# Altium footprint library libreriaPcb.PcbLib: 683 footprints (part 31 of 44)
Each footprint in its own frame and in the unit in brackets; x right, y up, seen from the top. Pads: shape width x height; smd on the part's side, far side on the other; paste and mask are expansions set on the pad; w line width, h text height; cw(c..) or ccw(c..) is an arc to the next point about the centre after c.
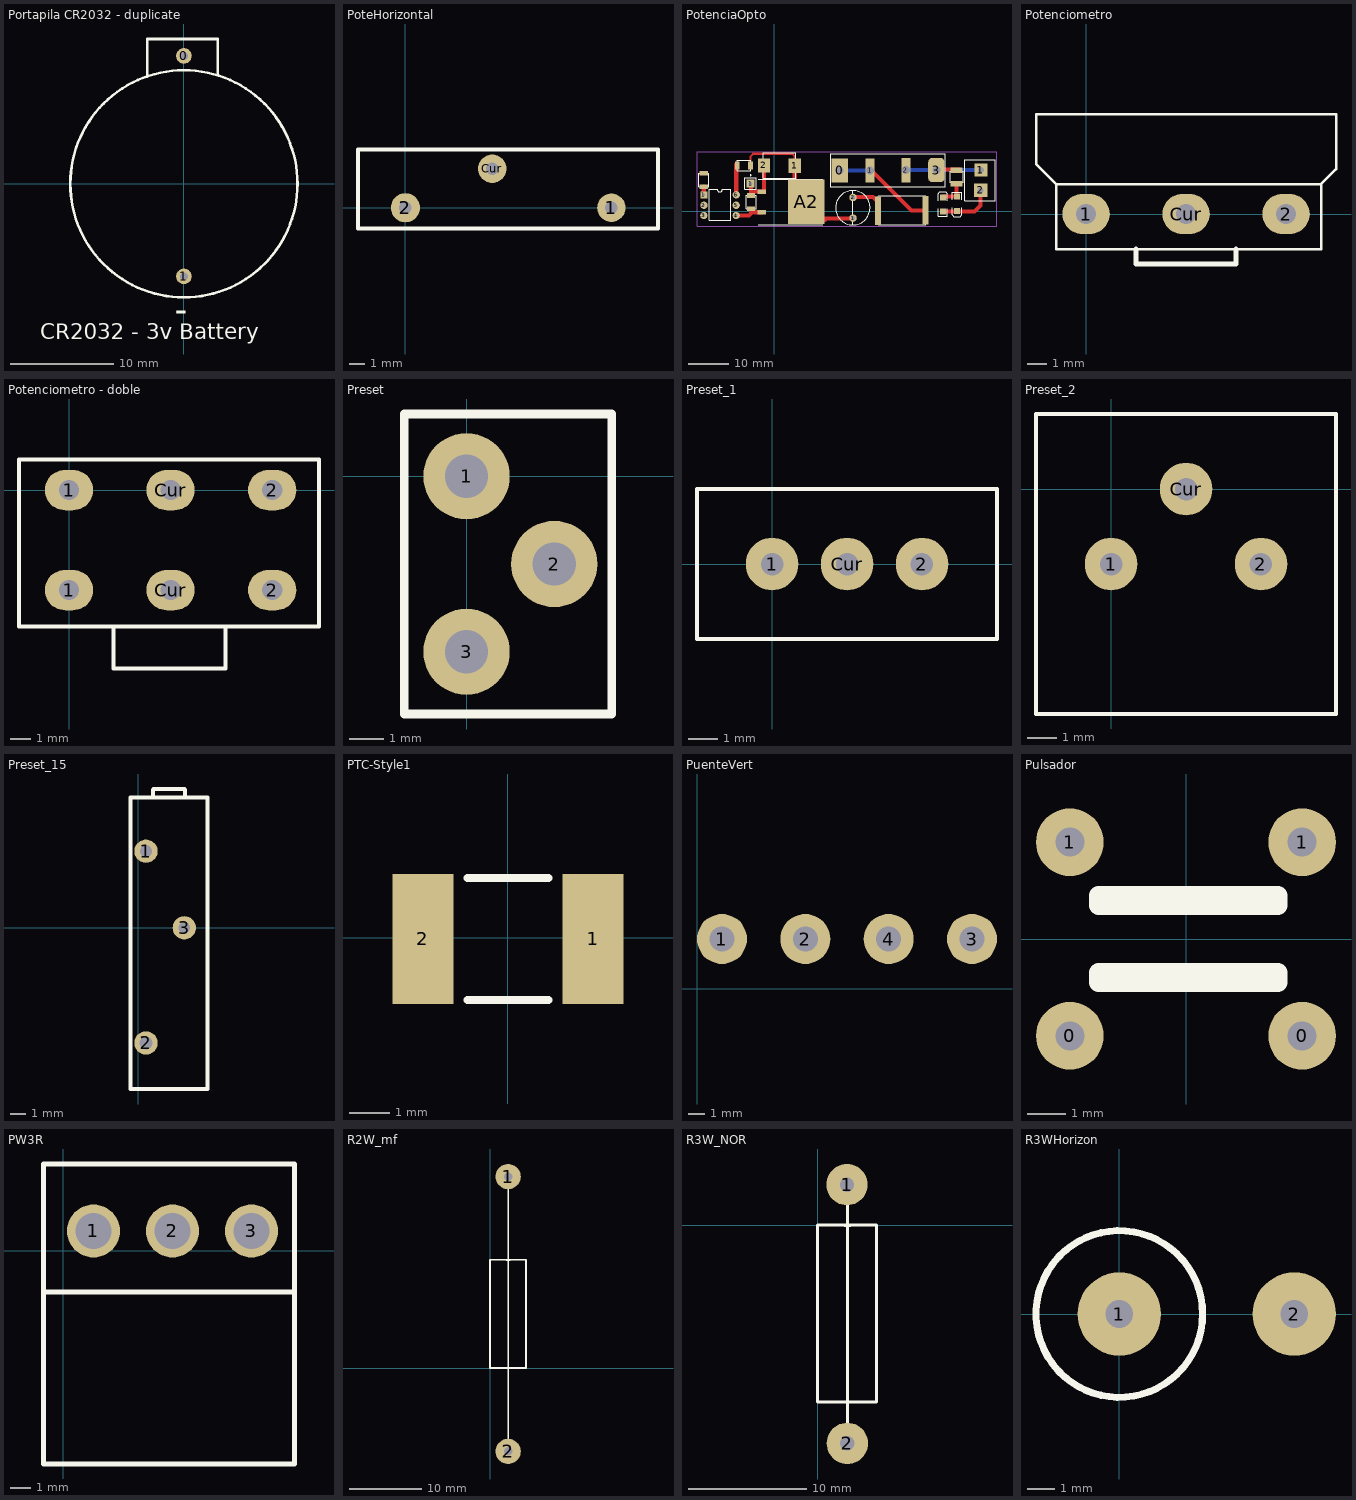
[diagram p30: the footprints below, top view; thin cyan lines are the x and y axes]

## Portapila CR2032 - duplicate [mil]
pads (2):
  round 60 hole 30: 0(0,490) 1(0,-355)
Top Overlay:
  circle w10: c0,0 r435.46
  lines w10: -140,410 -140,555 130,555 130,420
  text "CR2032 - 3v Battery" at -550,-595 h60
  text "-" at -35,-530 h100

## PoteHorizontal [mm]
pads (3):
  round 1.8 hole 0.8: 1(13.05,0) Cur(5.5,2.475)
  round 1.85 hole 0.8: 2(0,0)
Top Overlay:
  lines w0.254: -3,-1.325 -3,3.7 -0.175,3.7 16,3.7 16,-1.325 -3,-1.325
3D body: height 5.2, standoff 2.8, extent -4.85,0.05 -3.05,2.45
3D body: height 6.5, standoff 0, extent -2.999,-1.324 15.999,3.699

## PotenciaOpto [mm]
pads (34):
  rect 4x6 hole 2: 0(16.156,10.097)
  rect 2x1.15 smd: 1(-17.389,6.087) 1(-5.705,0.626) 2(-17.389,9.387) 2(-5.705,3.926)
  rect 1.8x1.8 hole 0.635: 1(-17.347,4.061)
  rect 2x2 hole 0.9: 1(-5.842,6.858)
  rect 1.15x2 smd: 1(-5.833,11.313) 2(-9.133,11.313)
  rect 3x3.5 smd: 1(5.07,11.278) 2(-2.53,11.328)
  round 1.85 hole 1: 1(19.456,-1.651) 2(19.456,3.429)
  rect 2.25x6 hole 2: 1(23.656,10.097) 2(32.526,10.177)
  rect 1.4x7 smd: 1(37.346,0.254) 2(25.629,0.178)
  rect 1.5x1.5 smd: 1(41.62,-0.073) 1(45.121,3.629) 2(41.62,3.427) 2(45.121,0.129)
  rect 3x1.4 smd: 1(44.958,10.159) 2(44.958,6.859)
  rect 3.25x3.25 hole 1.5: 1(51.023,10.204) 2(50.969,5.204)
  round 1.8 hole 0.635: 2(-17.347,1.511) 3(-17.357,-1.009) 4(-9.377,-1.019) 5(-9.377,1.521) 6(-9.367,4.091)
  rrect50% 4x6 hole 2: 3(40.016,10.197)
  rect 2x1.05 smd: A1(-3.064,4.869) G(-3.064,-0.211)
  rect 9x11 smd: A2(7.936,2.329)
Top Layer:
  lines w0.5: -5.833,11.313 -5.833,13.598 -5.207,14.224 4.445,14.224 5.07,13.599 5.07,11.405
  lines w1: -17.389,6.087 -17.389,4.103 -17.347,4.061 ; -9.377,-1.019 -6.226,-1.019 -5.705,-0.498 -5.705,0.626 -4.868,-0.211 -3.064,-0.211 ; -9.367,4.091 -9.367,11.588 ; -5.842,6.858 -5.705,6.721 -5.705,3.926 -4.762,4.869 -3.064,4.869 -2.53,5.403 -2.53,11.455 ; 5.07,11.405 5.07,11.278 5.07,5.195 7.936,2.329 7.936,2.478 12.573,-2.159 ; 12.446,-1.778 18.948,-1.778 ; 19.304,3.556 24.384,3.556 25.629,2.311 25.629,0.178 ; 23.656,10.097 24.066,10.097 33.909,0.254 37.346,0.254 ; 40.016,10.197 40.105,10.286 45.593,10.286 ; 41.62,-0.073 49.403,-0.073 50.969,1.493 50.969,5.204 ; 41.62,3.427 41.822,3.629 45.121,3.629 44.958,3.792 44.958,6.859
Bottom Layer:
  lines w1: 16.156,10.097 23.656,10.097 ; 32.526,10.177 51.023,10.177
Top Overlay:
  circle w0.25: c-5.842,8.908 r0.125
  lines w0.2: -3.964,-3.246 12.036,-3.246 ; -3.964,7.904 12.036,7.904 ; 25.629,3.776 25.629,-3.251 37.346,-3.251 37.346,3.835 ; 40.47,0.677 40.47,-1.223 42.77,-1.223 42.77,0.677 ; 40.47,2.677 40.47,4.377 40.87,4.877 42.37,4.877 42.77,4.377 42.77,2.677 ; 43.971,0.879 43.971,-0.821 44.371,-1.321 45.871,-1.321 46.271,-0.821 46.271,0.879 ; 43.971,2.879 43.971,4.779 46.271,4.779 46.271,2.879 ; -18.639,6.087 -17.389,6.087 -16.139,6.087 -16.139,9.387 -18.639,9.387 -18.639,6.087 ; -9.133,10.063 -5.833,10.063 -5.833,11.313 -5.833,12.563 -9.133,12.563 -9.133,10.063 ; -7.242,5.458 -7.242,8.258 -4.442,8.258 -4.442,5.458 -7.242,5.458 ; -6.955,0.626 -5.705,0.626 -4.455,0.626 -4.455,3.926 -6.955,3.926 -6.955,0.626 ; -2.705,8.203 5.291,8.203 5.291,14.453 -2.705,14.453 -2.705,8.203 ; 43.298,9.899 44.958,9.889 46.678,9.889 46.678,7.159 43.308,7.159 43.298,9.899
  lines w0.254: -14.107,5.471 -15.997,5.471 -15.997,-2.209 -10.717,-2.209 -10.717,5.471 -11.777,5.471 -12.787,5.471 ; -14.063,5.432 ccw(c-13.428,5.432) -12.793,5.432 ; 13.966,6.007 13.966,14.217 ; 13.966,6.027 42.196,6.027 42.196,14.237 13.966,14.237 ; 15.866,14.237 16.016,14.237 ; 16.686,14.237 16.706,14.237 ; 19.406,-3.353 19.406,5.139 ccw(c19.406,0.889) 19.431,5.139 ; 25.629,3.835 37.346,3.835 ; 47.023,2.604 47.023,12.704 54.523,12.704 54.523,2.604 47.023,2.604
Mechanical 1:
  lines w0.254: -19.05,-3.658 -19.025,-3.683 54.991,-3.683 54.991,14.732 -19.05,14.732 -19.05,-3.658
3D body: height 0.8, standoff 0, extent -19.075,-3.683 54.991,14.754
3D body: height 8, standoff 0, extent 15.207,-3.386 23.705,5.114
3D body: height 1, standoff 0, extent 14.055,5.996 24.52,14.299
3D body: height 5, standoff 1, extent 14.258,13.387 24.723,14.276
3D body: height 1, standoff 0, extent 31.682,6.047 42.148,14.351
3D body: height 5, standoff 1, extent 14.207,6.084 24.672,6.973
3D body: height 5, standoff 1, extent 31.606,13.323 42.071,14.212
3D body: height 5, standoff 1, extent 31.428,6.097 41.893,6.986
3D body: height 4, standoff 0, extent 14.173,8.301 42.173,12.301
3D body: height 4, standoff 0, extent 14.052,8.25 17.052,12.249
3D body: height 4, standoff 0, extent 39.303,8.345 42.303,12.344
3D body: height 3, standoff 0, extent -16.124,-2.336 -10.59,5.598
3D body: height 10, standoff -2, extent 50.271,4.504 51.668,5.899
3D body: height 10, standoff -2, extent 50.325,9.504 51.722,10.899
3D body: height 12, standoff 0, extent 53.423,2.691 54.56,7.704
3D body: height 12, standoff 0, extent 53.423,7.691 54.56,12.704
3D body: height 12, standoff 0, extent 47.116,2.604 47.523,12.704
3D body: height 3, standoff 0, extent 46.896,2.604 54.65,12.831
3D body: height 1, standoff 0, extent -18.199,9.047 -16.599,9.347
3D body: height 1, standoff 0, extent -18.199,6.147 -16.599,6.447
3D body: height 1, standoff 0, extent -18.199,6.447 -16.599,9.047
3D body: height 1, standoff 0, extent -9.093,10.503 -8.793,12.103
3D body: height 1, standoff 0, extent -6.193,10.503 -5.893,12.103
3D body: height 1, standoff 0, extent -8.793,10.503 -6.193,12.103
3D body: height 1, standoff 0, extent -6.515,3.586 -4.915,3.886
3D body: height 1, standoff 0, extent -6.515,0.686 -4.915,0.986
3D body: height 1, standoff 0, extent -6.515,0.986 -4.915,3.586
3D body: height 1, standoff 0, extent 43.418,7.209 46.548,9.809
3D body: height 1, standoff 0, extent 43.418,9.809 46.548,10.109
3D body: height 1, standoff 0, extent 43.418,6.909 46.548,7.209
3D body: height 1, standoff 0, extent 37.264,-3.249 37.564,3.706
3D body: height 2, standoff 0, extent 25.629,-3.251 37.327,3.855
3D body: height 1, standoff 0, extent 25.377,-3.249 25.677,3.706
3D body: height 4, standoff 0, extent 3.316,-3.272 12.538,7.931
3D body: height 1, standoff 0, extent 4.605,-3.253 13.027,7.951
3D body: height 3, standoff 2.5, extent -1.884,4.449 3.316,5.249
3D body: height 3, standoff 2.5, extent -1.884,-0.651 3.316,0.149
3D body: height 0.5, standoff 0, extent -4.084,-0.651 -1.384,0.149
3D body: height 0.5, standoff 0, extent -4.084,4.449 -1.384,5.249
3D body: height 3, standoff 0, extent -1.884,4.449 -1.384,5.249
3D body: height 3, standoff 0, extent -1.934,-0.651 -1.384,0.149
3D body: height 1, standoff 0, extent 44.298,0.254 45.923,3.556
3D body: height 1, standoff 0, extent 40.818,0 42.443,3.302
3D body: height 2.2, standoff 0, extent 5.295,9.503 5.595,13.053
3D body: height 2.3, standoff 0, extent -2.705,8.228 5.27,14.453
3D body: height 2.2, standoff 0, extent -3.005,9.553 -2.705,13.103

## Potenciometro [mil]
pads (3):
  oval 95x80 / inner round 0 / far side oval 95x80 hole 40: 1(0,0) 2(400,0) Cur(200,0)
Top Overlay:
  lines w5: -60,60 470,60 ; -60,60 -60,-70 470,-70 470,60 ; -60,60 -100,100 -100,200 500,200 500,90 470,60
  lines w10: 100,-70 100,-100 300,-100 300,-70

## Potenciometro - doble [mil]
pads (6):
  oval 95x80 / inner round 0 / far side oval 95x80 hole 40: 1(0,-196.85) 1(0,0) 2(400,-196.85) 2(400,0) Cur(200,-196.85) Cur(200,0)
Top Overlay:
  lines w7.87: 88,-269 88,-351 308,-351 308,-269 ; -98.43,-269 -98.43,60 492.13,60 492.13,-269 -98.43,-269

## Preset [mm]
pads (3):
  round 2.5 hole 1.25: 1(0,0) 2(2.54,-2.54) 3(0,-5.08)
Top Overlay:
  lines w0.254: -1.8,-6.88 -1.8,1.8 4.2,1.8 4.2,-6.88 -1.8,-6.88

## Preset_1 [mil]
pads (3):
  round 70 / inner round 0 / far side round 70 hole 30: 1(0,0) 2(200,0) Cur(100,0)
Top Overlay:
  lines w5: -100,-100 -100,100 300,100 300,-100 -100,-100
3D body: height 472.44, standoff 393.7, extent 195.51,-4.23 290,90.23
3D body: height 393.7, standoff 0, extent -102.5,-102.5 302.5,102.5

## Preset_2 [mil]
pads (3):
  round 70 / inner round 0 / far side round 70 hole 30: 1(0,-100) 2(200,-100) Cur(100,0)
Top Overlay:
  lines w5: -100,-300 300,-300 300,100 -100,100 -100,-300

## Preset_15 [mm]
pads (3):
  round 1.524 hole 0.8: 1(0.5,5)
  round 1.524 hole 0.85: 2(0.5,-7.5)
  round 1.524 hole 0.762: 3(3,0)
Top Overlay:
  lines w0.254: 0.95,8.5 0.95,9 1,9.05 3,9.05 3.05,9 3.05,8.5 ; -0.5,-10.5 -0.5,8.5 4.5,8.5 4.5,-10.5 -0.5,-10.5

## PTC-Style1 [mm]
pads (2):
  rect 1.5x3.2 smd: 1(2.1,-0.025) 2(-2.1,-0.025)
Top Overlay:
  lines w0.2: -1,-1.525 1,-1.525 ; -1,1.475 1,1.475
3D body: height 0.55, standoff 0, extent -2.5,-1.275 2.5,1.225
3D body: height 0.56, standoff 0.55, extent -1.75,-1.275 1.75,1.225

## PuenteVert [mm] "Puente de Diodos Vertical"
height 15
pads (4):
  round 3 hole 1.5: 1(1.5,3) 2(6.5,3) 3(16.5,3) 4(11.5,3)
3D body: height 18, standoff 0, extent 0,0 18,6

## Pulsador [mil]
pads (4):
  round 70 hole 30: 0(-120,-100) 0(120,-100) 1(-120,100) 1(120,100)
Top Overlay:
  lines w20: -90,-45 95,-45 95,-35 -90,-35 -90,-45 ; -90,35 -90,45 95,45 95,35 -90,35

## PW3R [mm]
pads (3):
  round 2.65 hole 1.8: 1(1.5,1) 2(5.45,1) 3(9.4,1)
Top Overlay:
  lines w0.254: -1,4.3 -1,4.35 ; -1,-2.05 11.55,-2.05 11.55,4.35 ; -1,-2.05 -1,4.35 ; -1,-2.05 -1,-10.65 11.55,-10.65 11.55,4.35 ; -1,4.35 11.55,4.35

## R2W_mf [mm]
pads (2):
  round 3.5 hole 1.2: 1(2.515,26.492) 2(2.515,-11.532)
Top Overlay:
  lines w0.254: 2.261,14.961 2.769,14.961 ; 2.515,-11.532 2.515,0 2.515,26.492 ; 2.515,14.707 2.515,15.215 ; 0,0 4.978,0 4.978,14.986 0,14.986 0,13.614 0,0
3D body: height 6, standoff 1, extent 0.015,0 5.015,15
3D body: height 4, standoff 3, extent 2.057,-11.074 3.055,26.926
3D body: height 6.1, standoff 0.9, extent -0.127,0.741 5.072,1.241
3D body: height 6.1, standoff 0.9, extent -0.127,1.63 5.072,2.13
3D body: height 6.1, standoff 0.9, extent -0.144,2.823 5.055,3.323
3D body: height 6.1, standoff 0.9, extent -0.093,6.1 5.105,6.6

## R3W_NOR [mm]
pads (2):
  round 3.5 hole 1.2: 1(2.489,3.429) 2(2.515,-18.466)
Top Overlay:
  lines w0.254: 2.261,-0.025 2.769,-0.025 ; 2.515,-18.466 2.515,-14.986 2.515,3.429 ; 2.515,-0.279 2.515,0.229 ; 0,-14.986 4.978,-14.986 4.978,0 0,0 0,-1.372 0,-14.986
3D body: height 6, standoff 1, extent 0.015,-14.986 5.015,0.014
3D body: height 4, standoff 3, extent 2.016,-18.466 3.014,3.534
3D body: height 6.1, standoff 0.9, extent -0.127,-14.245 5.072,-13.745
3D body: height 6.1, standoff 0.9, extent -0.127,-13.356 5.072,-12.856
3D body: height 6.1, standoff 0.9, extent -0.144,-12.163 5.055,-11.663
3D body: height 6.1, standoff 0.9, extent -0.093,-8.886 5.105,-8.386

## R3WHorizon [mm]
pads (2):
  round 3 hole 1: 1(0,0) 2(6.3,0)
Top Overlay:
  circle w0.254: c0,0 r3
3D body: height 12, standoff 0, extent 5.802,-0.498 6.8,0.498
3D body: height 2.5, standoff 0, extent -0.496,-0.499 0.5,0.499
3D body: height 12, standoff 11, extent 2.2,-0.498 6.2,0.5
3D body: height 12.5, standoff 0.5, extent -2.994,-2.976 2.994,3